# Altium schematic symbol library BNO080.SchLib: 1 symbol
Pins are listed as number, name and electrical type; pins without a type are passive.

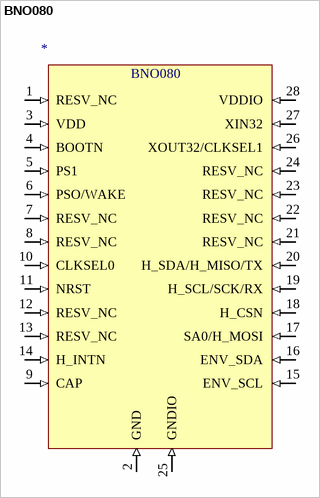
[diagram p0: symbol BNO080]

## BNO080
designator *  MfrPartNo: BNO080  (hidden comment: *)
pins: 1 RESV_NC (in), 2 GND (in), 3 VDD (in), 4 BOOTN (in), 5 PS1 (in), 6 PSO/WAKE (in), 7 RESV_NC (in), 8 RESV_NC (in), 9 CAP (in), 10 CLKSEL0 (in), 11 NRST (in), 12 RESV_NC (in), 13 RESV_NC (in), 14 H_INTN (in), 15 ENV_SCL (in), 16 ENV_SDA (in), 17 SA0/H_MOSI (in), 18 H_CSN (in), 19 H_SCL/SCK/RX (in), 20 H_SDA/H_MISO/TX (in), 21 RESV_NC (in), 22 RESV_NC (in), 23 RESV_NC (in), 24 RESV_NC (in), 25 GNDIO (in), 26 XOUT32/CLKSEL1 (in), 27 XIN32 (in), 28 VDDIO (in)